# Altium schematic symbol library npn-bjt_0.Schlib: 1 symbol
Pins are listed as number, name and electrical type; pins without a type are passive.

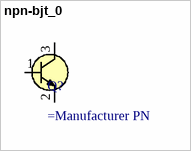
[diagram p0: symbol npn-bjt_0]

## npn-bjt_0
designator Q?
NPN BJT 3 Terminal
pins: 1 B, 2 E, 3 C